# Altium schematic symbol library TPS564208DDCT.SchLib: 1 symbol
Pins are listed as number, name and electrical type; pins without a type are passive.

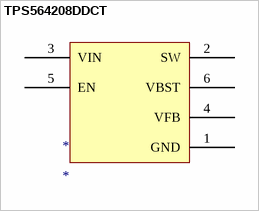
[diagram p0: symbol TPS564208DDCT]

## TPS564208DDCT
designator *
pins: 1 GND, 2 SW, 3 VIN, 4 VFB, 5 EN, 6 VBST